# Altium integrated library transist.IntLib: 62 symbols
Pins are listed as number, name and electrical type; pins without a type are passive.

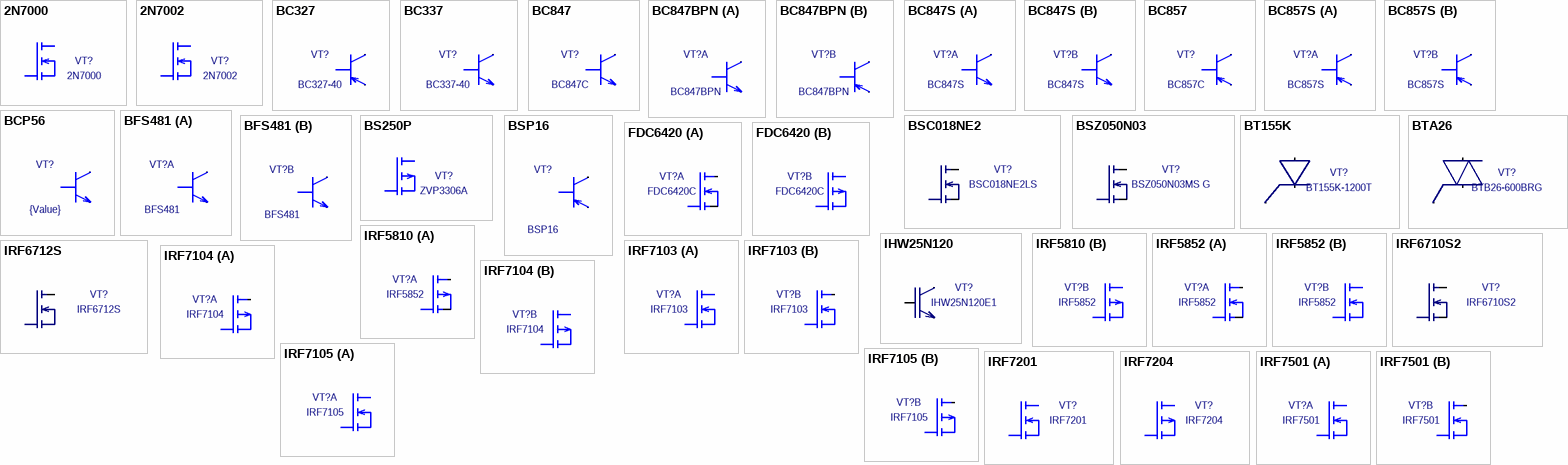
[diagram p0: symbols 2N7000 to IRF7501]

## 2N7000
designator VT?
NMOS to92; Value: 2N7000
footprint TO-92
pins: 1 S, 2 G, 3 D

## 2N7002
designator VT?
NMOS sot23; Value: 2N7002
footprint SOT-23
pins: 1 G, 2 S, 3 D

## BC327
designator VT?, comment BC327-40
PNP TO92 CBE; Value: BC327-40
footprint TO-92-HORIZ
footprint TO-92
footprint TO-92_SMD
pins: 1 C, 2 B, 3 E

## BC337
designator VT?, comment BC337-40
NPN TO92 CBE; Value: BC337-40
footprint TO-92-HORIZ
footprint TO-92
footprint TO-92_SMD
pins: 1 C, 2 B, 3 E

## BC847
designator VT?, comment BC847C
npn SOT-23; Value: BC847C
footprint SOT-23
pins: 1 B, 2 E, 3 C

## BC847BPN
designator VT?
pnp+npn SC-70-6; Value: BC847BPN
footprint SC-70-6
part A pins: 1 E, 2 B, 6 C
part B pins: 3 C, 4 E, 5 B

## BC847S
designator VT?
npn SC-70-6; Value: BC847S
footprint SC-70-6
part A pins: 1 E, 2 B, 6 C
part B pins: 3 C, 4 E, 5 B

## BC857
designator VT?, comment BC857C
pnp SOT-23; Value: BC857C
footprint SOT-23
pins: 1 B, 2 E, 3 C

## BC857S
designator VT?
pnp SC-70-6; Value: BC857S
footprint SC-70-6
part A pins: 1 E, 2 B, 6 C
part B pins: 3 C, 4 E, 5 B

## BCP56
designator VT?  value {Value}  (hidden comment: BCP56)
npn SOT-223
footprint SOT-223
footprint SOT-89-4
pins: 1 B, 2 C, 3 E, 4 C2

## BFS481
designator VT?
npn SC-70-6; Value: BFS481
footprint SC-70-6
part A pins: 1 B, 2 E, 6 C
part B pins: 3 C, 4 B, 5 E

## BS250P
designator VT?, comment ZVP3306A
PMOS to92; Value: ZVP3306A
footprint TO-92
pins: 1 S, 2 G, 3 D

## BSC018NE2
designator VT?, comment BSC018NE2LS
NMOS TDSON5x6; Value: BSC018NE2LS
footprint TSON-8 5x6 (5x6)
pins: 1 S1, 2 S2, 3 S3, 4 G, 5 D5, 6 D6, 7 D7, 8 D8, 9 D9

## BSP16
designator VT?
pnp SOT-223; Value: BSP16
footprint SOT-223
footprint SOT-89-4
pins: 1 B, 2 C, 3 E, 4 C2

## BSZ050N03
designator VT?, comment BSZ050N03MS G
NMOS TDSON3x3; Value: BSZ050N03MS G
footprint TSON-8 3x3 (3x3)
pins: 1 S1, 2 S2, 3 S3, 4 G, 5 D5, 6 D6, 7 D7, 8 D8, 9 D9

## BT155K
designator VT?, comment BT155K-1200T
Thyristor TO-247/220; Value: BT155K-1200T
footprint TO247V
footprint TO-220-3V
footprint TO-263-3
pins: 1 C, 2 A, 3 G

## BTA26
designator VT?, comment BTB26-600BRG
Triac TO-247/220; Value: BTB26-600BRG
footprint TO247V
footprint TO-220-3V
footprint TO-263-3
pins: 1 C, 2 A, 3 G

## FDC6420
designator VT?, comment FDC6420C
N+PMOS SOT23; Value: FDC6420C
footprint SOT-23-6
part A pins: 1 G, 5 S, 6 D
part B pins: 2 S, 3 G, 4 D

## IHW25N120
designator VT?, comment IHW25N120E1
IGBT TO-247,220,252,263,268; Value: IHW25N120E1
footprint TO247V
footprint TO-220-3V
footprint TO-220-3V-HV
footprint TO-252-3
footprint TO-263-3
footprint TO-268-3
pins: 1 G, 2 C, 3 E

## IRF5810
designator VT?, comment IRF5852
2xPMOS SOT23; Value: IRF5852
footprint SOT-23-6
part A pins: 1 G, 5 S, 6 D
part B pins: 2 S, 3 G, 4 D

## IRF5852
designator VT?
2xNMOS SOT23; Value: IRF5852
footprint SOT-23-6
part A pins: 1 G, 5 S, 6 D
part B pins: 2 S, 3 G, 4 D

## IRF6710S2
designator VT?
NMOS S1/S2; Value: IRF6710S2
footprint S1/S2
pins: D1, D2, D3, D4, G, S1, S2

## IRF6712S
designator VT?
NMOS SQ; Value: IRF6712S
footprint S1/S2
pins: D1, D2, D3, D4, G, S1

## IRF7103
designator VT?
2xNMOS SO8; Value: IRF7103
footprint SO8
part A pins: 1 S, 2 G, 7 D, 8 D
part B pins: 3 S, 4 G, 5 D, 6 D

## IRF7104
designator VT?
2xPMOS SO8; Value: IRF7104
footprint SO8
part A pins: 1 S, 2 G, 7 D, 8 D
part B pins: 3 S, 4 G, 5 D, 6 D

## IRF7105
designator VT?
N+PMOS SO8; Value: IRF7105
footprint SO8
part A pins: 1 S, 2 G, 7 D, 8 D
part B pins: 3 S, 4 G, 5 D, 6 D

## IRF7201
designator VT?
NMOS SO8; Value: IRF7201
footprint SO8
pins: 1 S, 2 S, 3 S, 4 G, 5 D, 6 D, 7 D, 8 D

## IRF7204
designator VT?
PMOS SO8; Value: IRF7204
footprint SO8
pins: 1 S, 2 S, 3 S, 4 G, 5 D, 6 D, 7 D, 8 D

## IRF7501
designator VT?
2xNMOS TSOP8; Value: IRF7501
footprint TSSOP8-4MM (0.65mm pitch)
part A pins: 1 S, 2 G, 7 D, 8 D
part B pins: 3 S, 4 G, 5 D, 6 D

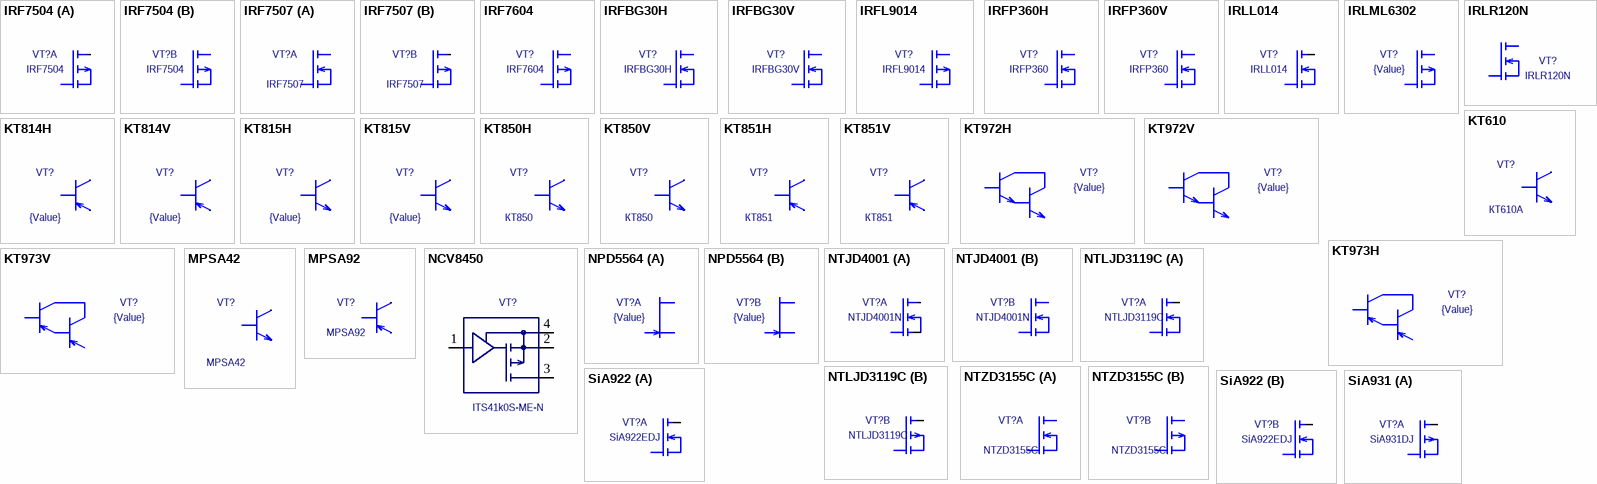
[diagram p1: symbols IRF7504 to SiA931]

## IRF7504
designator VT?
2xPMOS TSOP8; Value: IRF7504
footprint TSSOP8-4MM (0.65mm pitch)
part A pins: 1 S, 2 G, 7 D, 8 D
part B pins: 3 S, 4 G, 5 D, 6 D

## IRF7507
designator VT?
N+PMOS TSOP8; Value: IRF7507
footprint TSSOP8-4MM (0.65mm pitch)
part A pins: 1 S, 2 G, 7 D, 8 D
part B pins: 3 S, 4 G, 5 D, 6 D

## IRF7604
designator VT?
PMOS TSOP8; Value: IRF7604
footprint TSSOP8-4MM (0.65mm pitch)
pins: 1 S, 2 S, 3 S, 4 G, 5 D, 6 D, 7 D, 8 D

## IRFBG30H
designator VT?
NMOS TO220 horizontal; Value: IRFBG30H
footprint TO-220-3H
footprint TO-220-3H-REV
pins: 1 G, 2 D, 3 S

## IRFBG30V
designator VT?
NMOS TO220 vertical; Value: IRFBG30V
footprint TO-220-3V-HV
footprint TO-220-3V
pins: 1 G, 2 D, 3 S

## IRFL9014
designator VT?
PMOS SOT223; Value: IRFL9014
footprint SOT-223
pins: 1 G, 2 D, 3 S, 4

## IRFP360H
designator VT?, comment IRFP360
NMOS TO247; Value: IRFP360
footprint TO247H
footprint TO247R
pins: 1 G, 2 D, 3 S, 4 hidden

## IRFP360V
designator VT?, comment IRFP360
NMOS TO247; Value: IRFP360
footprint TO247V
pins: 1 G, 2 D, 3 S

## IRLL014
designator VT?
NMOS SOT223; Value: IRLL014
footprint SOT-223
pins: 1 G, 2 D, 3 S, 4

## IRLML6302
designator VT?, comment {Value}
PMOS SOT23; Value: {Value}
footprint SOT-23
pins: 1 G, 2 S, 3 D

## IRLR120N
designator VT?
NMOS TO252,263,268; Value: IRLR120N
footprint TO-252-3
footprint TO-263-3
footprint TO-268-3
pins: 1 G, 2 D, 3 S

## KT610
designator VT?  value КТ610А  (hidden comment: KT610)
footprint UHF1_A
pins: 1 C, 2 E, 3 B, 4 E hidden

## KT814H
designator VT?  value {Value}  (hidden comment: KT814H)
footprint TO-126H
pins: 1 E, 2 C, 3 B, 4 hidden

## KT814V
designator VT?  value {Value}  (hidden comment: KT814V)
footprint TO-126V
pins: 1 E, 2 C, 3 B

## KT815H
designator VT?  value {Value}  (hidden comment: KT815H)
footprint TO-126H
pins: 1 E, 2 C, 3 B, 4 hidden

## KT815V
designator VT?  value {Value}  (hidden comment: KT815V)
footprint TO-126V
pins: 1 E, 2 C, 3 B

## KT850H
designator VT?  value КТ850  (hidden comment: KT850H)
footprint TO-220-3H
pins: 1 B, 2 C, 3 E

## KT850V
designator VT?  value КТ850  (hidden comment: KT850V)
footprint TO-220-3V-HV
pins: 1 B, 2 C, 3 E

## KT851H
designator VT?  value КТ851  (hidden comment: KT851H)
footprint TO-220-3H
pins: 1 B, 2 C, 3 E

## KT851V
designator VT?  value КТ851  (hidden comment: KT851V)
footprint TO-220-3V-HV
pins: 1 B, 2 C, 3 E

## KT972H
designator VT?  value {Value}  (hidden comment: KT972H)
footprint TO-126H
pins: 1 E, 2 C, 3 B, 4 hidden

## KT972V
designator VT?  value {Value}  (hidden comment: KT972V)
footprint TO-126V
pins: 1 E, 2 C, 3 B

## KT973H
designator VT?  value {Value}  (hidden comment: KT973H)
footprint TO-126H
pins: 1 E, 2 C, 3 B, 4 hidden

## KT973V
designator VT?  value {Value}  (hidden comment: KT973V)
footprint TO-126V
pins: 1 E, 2 C, 3 B

## MPSA42
designator VT?
NPN TO92 EBC; Value: MPSA42
footprint TO-92
footprint TO-92-HORIZ
footprint TO-92_SMD
pins: 1 E, 2 B, 3 C

## MPSA92
designator VT?
PNP TO92 EBC; Value: MPSA92
footprint TO-92
footprint TO-92-HORIZ
footprint TO-92_SMD
pins: 1 E, 2 B, 3 C

## NCV8450
designator VT?, comment ITS41k0S-ME-N
Protected PMOS; Value: ITS41k0S-ME-N
footprint SOT-223
pins: 1 G, 2 S2, 3 D, 4 S4

## NPD5564
designator VT?  value {Value}  (hidden comment: NPD5564)
footprint DIP8
pins on every part: 3 hidden, 7 hidden
part A pins: 1 D, 2 S, 4 G
part B pins: 5 D, 6 S, 8 G

## NTJD4001
designator VT?, comment NTJD4001N
2xNMOS SOT363; Value: NTJD4001N
footprint SC-70-6
part A pins: 1 S, 2 G, 6 D
part B pins: 3 D, 4 S, 5 G

## NTLJD3119C
designator VT?
N+PMOS 2x2; Value: NTLJD3119C
footprint PQFN2X2-2
part A pins: 1 S, 2 G, 6 D, 7 D2
part B pins: 3 D, 4 S, 5 G, 8 D2

## NTZD3155C
designator VT?
N+PMOS SOT563; Value: NTZD3155C
footprint SOT-563
part A pins: 1 S, 2 G, 6 D
part B pins: 3 D, 4 S, 5 G

## SiA922
designator VT?, comment SiA922EDJ
2xNMOS 2x2; Value: SiA922EDJ
footprint PQFN2X2-2
part A pins: 1 S, 2 G, 6 D, 7 D2
part B pins: 3 D, 4 S, 5 G, 8 D2

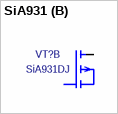
[diagram p2: symbol SiA931]

## SiA931
designator VT?, comment SiA931DJ
2xPMOS 2x2; Value: SiA931DJ
footprint PQFN2X2-2
part A pins: 1 S, 2 G, 6 D, 7 D2
part B pins: 3 D, 4 S, 5 G, 8 D2